# Altium schematic symbol library MotorDriver.SchLib: 1 symbol
Pins are listed as number, name and electrical type; pins without a type are passive.

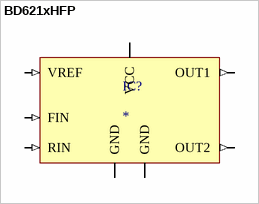
[diagram p0: symbol BD621xHFP]

## BD621xHFP
designator IC?
DC Motor driver, full H-bridge
footprint HRP7_N (HRP, 7-Leads, 1.27mm Pitch, Body 9x9.8mm, Lead Span 10.7mm, IPC Medium Density)
pins: 1 VREF (in), 2 OUT1 (out), 3 FIN (in), 4 GND (power), 5 RIN (in), 6 OUT2 (out), 7 VCC (power), Heatsink GND (power)